# Altium schematic symbol library HMC5883L-TR.SchLib: 1 symbol
Pins are listed as number, name and electrical type; pins without a type are passive.

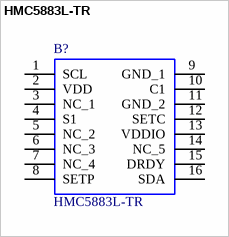
[diagram p0: symbol HMC5883L-TR]

## HMC5883L-TR
designator B?
HONEYWELL - HMC5883L-TR - IC, DIGITAL COMPASS, 3 AXIS, 16 PIN; Farnell Part Number: 1971743; Manufacturer_Name: Honeywell; Manufacturer_Part_Number: HMC5883L-TR; Datasheet Link: https://componentsearchengine.com/Datasheets/2/HMC5883L-TR.pdf
footprint 16-PIN-LPCC
pins: 1 SCL, 2 VDD, 3 NC_1, 4 S1, 5 NC_2, 6 NC_3, 7 NC_4, 8 SETP, 9 GND_1, 10 C1, 11 GND_2, 12 SETC, 13 VDDIO, 14 NC_5, 15 DRDY, 16 SDA